# EAGLE library part ST7920 (library IGVC-Connector)
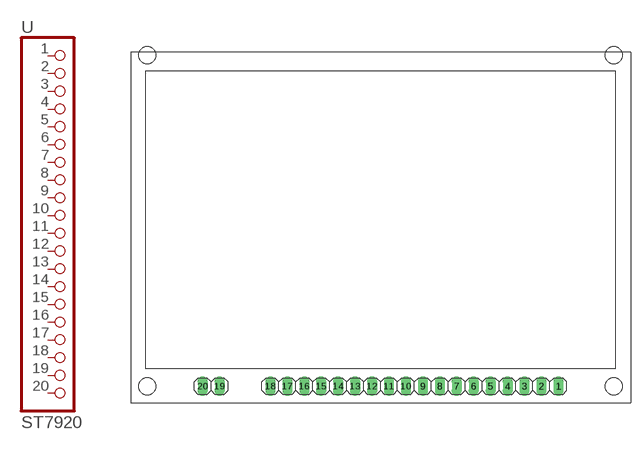
[diagram p2: symbol with the pads of ST7920-LCD; footprint ST7920-LCD]

Designator prefix U

## ST7920  [ST7920-LCD]
1  1  pas
2  2  pas
3  3  pas
4  4  pas
5  5  pas
6  6  pas
7  7  pas
8  8  pas
9  9  pas
10  10  pas
11  11  pas
12  12  pas
13  13  pas
14  14  pas
15  15  pas
16  16  pas
17  17  pas
18  18  pas
19  19  pas
20  20  pas

## Footprint ST7920-LCD (pad centres in mm)
drill 1.016 long: 1 64.17,2.5; 2 61.63,2.5; 3 59.09,2.5; 4 56.55,2.5; 5 54.01,2.5; 6 51.47,2.5; 7 48.93,2.5; 8 46.39,2.5; 9 43.85,2.5; 10 41.31,2.5; 11 38.77,2.5; 12 36.23,2.5; 13 33.69,2.5; 14 31.15,2.5; 15 28.61,2.5; 16 26.07,2.5; 17 23.53,2.5; 18 20.99,2.5; 19 13.37,2.5; 20 10.83,2.5